# Altium schematic symbol library Conn,Spring,6Pos,1.6mm,SMD.Schlib: 1 symbol
Pins are listed as number, name and electrical type; pins without a type are passive.

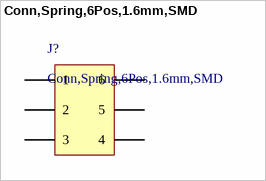
[diagram p0: symbol Conn,Spring,6Pos,1.6mm,SMD]

## Conn,Spring,6Pos,1.6mm,SMD
designator J?
6 Position Spring Compression Contact, Non-Gendered Connector Surface Mount
pins: 1, 2, 3, 4, 5, 6